# EAGLE library part LMR14206 (library untitled)
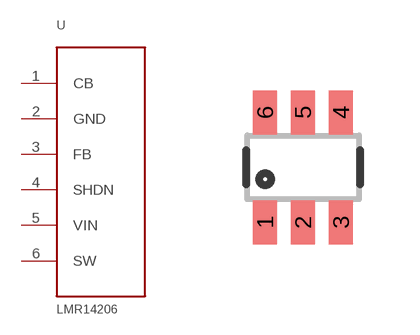
[diagram p1: symbol with the pads of SOT23-6; footprint SOT23-6]

Designator prefix -

## LMR14206  [SOT23-6]
1  CB
2  GND
3  FB
4  SHDN
5  VIN
6  SW

## Footprint SOT23-6 (pad centres in mm)
smd 0.6 x 1.1: 1 -0.95,-1.375; 2 0,-1.375; 3 0.95,-1.375; 4 0.95,1.375; 5 0,1.375; 6 -0.95,1.375